# Altium schematic symbol library Schlib1.SchLib: 1 symbol
Pins are listed as number, name and electrical type; pins without a type are passive.

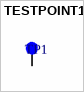
[diagram p0: symbol TESTPOINT1]

## TESTPOINT1
designator TP1, comment TP_1  (value not drawn)  (no BOM)
footprint TestPoint1
pins: TP1 1